# Altium schematic symbol library FODM2705.Schlib: 2 symbols
Pins are listed as number, name and electrical type; pins without a type are passive.

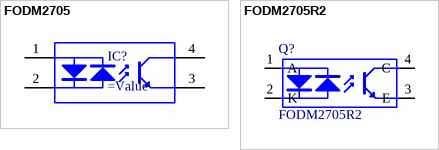
[diagram p0: symbols FODM2705 to FODM2705R2]

## FODM2705
designator IC?
=Description
pins: 1 A "Anode", 2 K "Cathode", 3 E "Emitter", 4 C "Collector"

## FODM2705R2
designator Q?
Transistor Output Optocouplers AC In Photo Xsistor Output Optocoupler; Manufacture: Fairchild Semiconductor; BSH Part number: Q-FODM2705R2; Part number: FODM2705R2; Datasheet: https://www.fairchildsemi.com/datasheets/FO/FODM2705.pdf; Mouser add: http://vn.mouser.com/ProductDetail/Fairchild-Semiconductor/FODM2705R2/?qs=sGAEpiMZZMteimceiIVCBz%2f4M5H%2fqjR9X8LsvI%2f9%252bMc%3d
footprint SMD 4
pins: 1 A "Anode", 2 K "Cathode", 3 E "Emitter", 4 C "Collector"